# EAGLE library part UDA1334ATS (library MyComponents)
Low power audio DAC with PLL
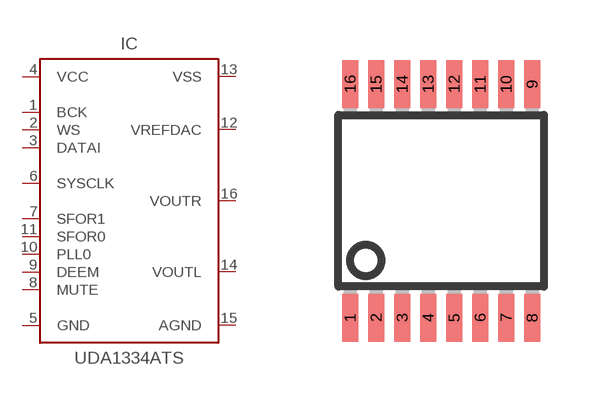
[diagram p14: symbol with the pads of SSOP16; footprint SSOP16]

Designator prefix IC

## UDA1334ATS (MOUSER: 771-UDA1334ATSDH-T)  [SSOP16]
1  BCK  in
2  WS  in
3  DATAI  in
4  VCC  pwr
5  GND  pwr
6  SYSCLK  in
7  SFOR1  in
8  MUTE  in
9  DEEM  in
10  PLL0  in
11  SFOR0  in
12  VREFDAC  in
13  VSS  pwr
14  VOUTL  out
15  AGND  pwr
16  VOUTR  out

## Footprint SSOP16 (pad centres in mm)
Small Shrink Outline Package
smd 0.4 x 1.2: 1 -2.275,-2.925; 2 -1.625,-2.925; 3 -0.975,-2.925; 4 -0.325,-2.925; 5 0.325,-2.925; 6 0.975,-2.925; 7 1.625,-2.925; 8 2.275,-2.925; 9 2.275,2.925; 10 1.625,2.925; 11 0.975,2.925; 12 0.325,2.925; 13 -0.325,2.925; 14 -0.975,2.925; 15 -1.625,2.925; 16 -2.275,2.925